# Altium footprint library Connectivity_Plugs.PcbLib: 37 footprints (part 1 of 3)
Each footprint in its own frame and in the unit in brackets; x right, y up, seen from the top. Pads: shape width x height; smd on the part's side, far side on the other; paste and mask are expansions set on the pad; w line width, h text height; cw(c..) or ccw(c..) is an arc to the next point about the centre after c.
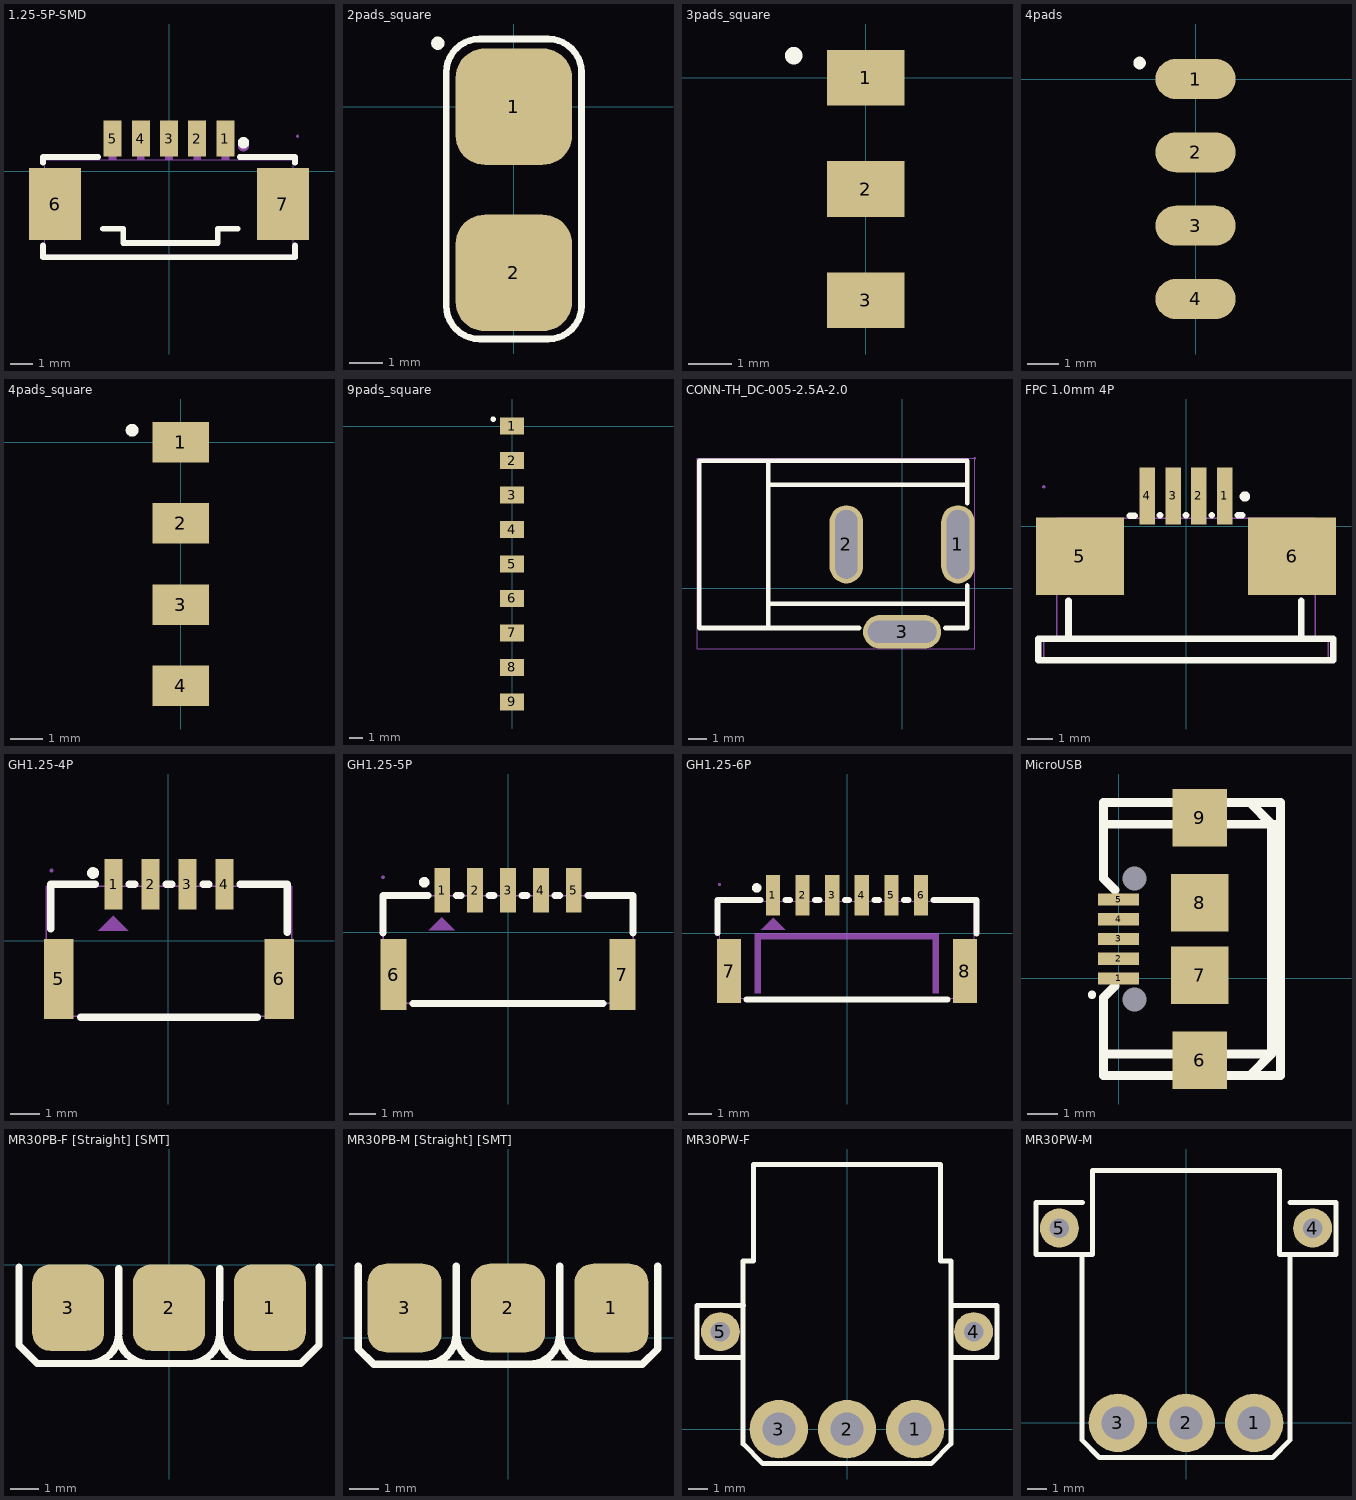
[diagram p0: the footprints below, top view; thin cyan lines are the x and y axes]

## 1.25-5P-SMD [mm] "CONN-SMD_5P-P1.25_532610571-2"
pads (7):
  rect 0.8x1.6 smd paste+0 mask+0.051: 1(2.5,1.45) 2(1.25,1.45) 3(0,1.45) 4(-1.25,1.45) 5(-2.5,1.45)
  rect 2.3x3.2 smd paste+0 mask+0.051: 6(-5.05,-1.45) 7(5.05,-1.45)
Top Overlay:
  circle w0.254: c3.302,1.27 r0.127
  lines w0.254: -5.588,-3.281 -5.588,-3.81 5.588,-3.81 5.588,-3.281 ; -5.588,0.381 -5.588,0.635 -3.131,0.635 ; -2.921,-2.54 -2.032,-2.54 -2.032,-3.175 2.159,-3.175 2.159,-2.54 2.921,-2.54 3.048,-2.54 ; 3.131,0.635 5.588,0.635 5.588,0.381
Mechanical 6:
  circle w0.254: c3.302,1.143 r0.127
Mechanical 15:
  region: 5.76,1.562 5.76,1.587 5.725,1.622 5.675,1.622 5.64,1.587 5.64,1.562 5.64,1.537 5.675,1.502 5.725,1.502 5.76,1.537
  region: 5.7,-0.485 5.7,-2.685 4.22,-2.685 4.22,-0.485
  region: 2.66,1.137 2.66,0.5 2.34,0.5 2.34,1.137
  region: 2.66,1.562 2.66,1.112 2.34,1.112 2.34,1.562
  region: -2.34,1.562 -2.34,1.112 -2.66,1.112 -2.66,1.562
  region: -1.09,1.562 -1.09,1.112 -1.41,1.112 -1.41,1.562
  region: 0.16,1.562 0.16,1.112 -0.16,1.112 -0.16,1.562
  region: 1.41,1.562 1.41,1.112 1.09,1.112 1.09,1.562
  region: -2.34,1.137 -2.34,0.5 -2.66,0.5 -2.66,1.137
  region: -1.09,1.137 -1.09,0.5 -1.41,0.5 -1.41,1.137
  region: 0.16,1.137 0.16,0.5 -0.16,0.5 -0.16,1.137
  region: 1.41,1.137 1.41,0.5 1.09,0.5 1.09,1.137
  region: -4.22,-0.485 -4.22,-2.685 -5.7,-2.685 -5.7,-0.485
  lines w0.051: -5.5,-3.685 -5.5,0.515 5.5,0.515 5.5,-3.685 -5.5,-3.685
3D body "3D_PCB1_2023-04-28.step": height 3.41, standoff 0, extent -5.7,-3.93 5.7,1.27

## 2pads_square [mm]
pads (2):
  rrect50% 3.5x3.5 smd: 1(0,0) 2(0,-5)
Top Overlay:
  circle w0.2: c-2.286,1.905 r0.1
  lines w0.2: -2.032,-5.985 ccw(c-1.032,-5.985) -1.032,-6.985 1.032,-6.985 ccw(c1.032,-5.985) 2.032,-5.985 2.032,1.032 ccw(c1.032,1.032) 1.032,2.032 -1.032,2.032 ccw(c-1.032,1.032) -2.032,1.032 -2.032,-5.985

## 3pads_square [mil]
pads (3):
  rect 70x50 smd: 1(0,0) 2(0,-100) 3(0,-200)
Top Overlay:
  circle w7.87: c-65,20 r3.94

## 4pads [mm]
pads (4):
  rrect100% 2.54x1.27 smd: 1(0,0) 2(0,-2.328) 3(0,-4.657) 4(0,-6.985)
Top Overlay:
  circle w0.2: c-1.778,0.508 r0.1

## 4pads_square [mil]
pads (4):
  rect 70x50 smd: 1(0,0) 2(0,-100) 3(0,-200) 4(0,-300)
Top Overlay:
  circle w7.87: c-60,15 r3.94

## 9pads_square [mil]
pads (9):
  rect 70x50 smd: 1(0,0) 2(0,-100) 3(0,-200) 4(0,-300) 5(0,-400) 6(0,-500) 7(0,-600) 8(0,-700) 9(0,-800)
Top Overlay:
  circle w7.87: c-55,20 r3.94

## CONN-TH_DC-005-2.5A-2.0 [mm]
pads (3):
  oval 1.8x4.2 hole 1.2 slot 3.7 at 90 deg: 1(3,2.35) 2(-3,2.35)
  oval 4.2x1.8 hole 1.2 slot 3.7 at 0 deg: 3(0,-2.35)
Top Overlay:
  lines w0.254: -7.2,-2.15 -7.2,6.85 ; -7.12,-0.85 3.5,-0.85 ; -7.12,5.55 3.5,5.55 ; -2.313,-2.15 -10.9,-2.15 -10.9,6.85 3.5,6.85 3.5,4.564 ; 2.313,-2.15 3.5,-2.15 3.5,0.136
Mechanical 15:
  region: 3.96,6.977 3.96,7.002 3.925,7.037 3.875,7.037 3.84,7.002 3.84,6.977 3.84,6.952 3.875,6.917 3.925,6.917 3.96,6.952
  region: -1.25,-1.87 1.25,-1.87 1.25,-2.83 -1.25,-2.83
  region: -2.52,3.6 -2.52,1.1 -3.48,1.1 -3.48,3.6
  region: 2.52,1.1 2.52,3.6 3.48,3.6 3.48,1.1
  lines w0.051: -11.027,-3.25 -11.027,6.977 3.9,6.977 3.9,-3.25 -11.027,-3.25
3D body "3D_PCB1_2023-08-28.step": height 11, standoff -3.99, extent -10.668,-2.491 3.381,6.809

## FPC 1.0mm 4P [mm] "SMD,1mm P数:4 抽屉式 下接"
pads (6):
  rect 0.6x2.2 smd mask+0.051: 1(1.499,1.163) 2(0.499,1.163) 3(-0.5,1.163) 4(-1.5,1.163)
  rect 3.4x3 smd mask+0.051: 5(-4.1,-1.162) 6(4.1,-1.163)
Top Overlay:
  circle w0.2: c2.276,1.143 r0.1
  lines w0.254: -5.718,-5.192 4.48,-5.192 ; -5.718,-5.19 -5.718,-4.36 ; -5.718,-4.352 5.69,-4.352 ; -4.543,-4.352 -4.543,-2.893 ; -2.175,0.4 -1.988,0.4 ; -1.004,0.415 -0.995,0.415 ; -0.004,0.415 0.004,0.415 ; 0.995,0.415 1.004,0.415 ; 1.995,0.415 2.182,0.415 ; 4.456,-4.352 4.456,-2.894 ; 4.49,-5.192 5.69,-5.192 5.69,-4.362
Mechanical 6:
  circle w0.2: c1.525,1.975 r0.1
Mechanical 15:
  region: 5,-2.413 3.2,-2.413 3.2,0.087 5,0.087
  region: -3.2,-2.412 -5,-2.412 -5,0.088 -3.2,0.088
  region: -1.625,1.512 -1.375,1.512 -1.375,0.112 -1.625,0.112
  region: -0.625,1.512 -0.375,1.512 -0.375,0.112 -0.625,0.112
  region: 1.374,1.512 1.624,1.512 1.624,0.112 1.374,0.112
  region: 0.374,1.512 0.625,1.512 0.625,0.112 0.374,0.112
  region: -5.44,1.512 -5.44,1.537 -5.475,1.572 -5.525,1.572 -5.56,1.537 -5.56,1.512 -5.56,1.488 -5.525,1.452 -5.475,1.452 -5.44,1.488
  lines w0.051: -5.5,-5.2 5.5,-5.2 5.5,-4.35 5,-4.35 5,0.3 -5,0.3 -5,-4.325 -5.5,-4.325 -5.5,-5.2
3D body: height 2.5, standoff 0, extent -5.588,-5.334 5.588,0.381

## GH1.25-4P [mm]
pads (6):
  rect 0.6x1.7 smd mask+0.05: 1(-1.845,1.905) 2(-0.595,1.905) 3(0.655,1.905) 4(1.905,1.905)
  rect 1x2.7 smd mask+0.05: 5(-3.695,-1.296) 6(3.755,-1.296)
Top Overlay:
  circle w0.2: c-2.54,2.286 r0.1
  lines w0.254: -3.97,0.405 -3.97,1.905 -2.47,1.905 ; -2.964,-2.595 3.024,-2.595 ; -1.314,1.905 -1.126,1.905 ; -0.064,1.905 0.124,1.905 ; 1.186,1.905 1.374,1.905 ; 2.436,1.905 2.53,1.905 4.03,1.905 4.03,0.285
Mechanical 6:
  region: -2.357,0.336 -1.357,0.336 -1.857,0.836
Mechanical 15:
  region: -3.595,-2.546 -3.795,-2.546 -3.795,-0.046 -3.595,-0.046
  region: 3.855,-2.546 3.655,-2.546 3.655,-0.046 3.855,-0.046
  region: -1.745,1.248 -1.945,1.248 -1.945,2.248 -1.745,2.248
  region: -0.495,1.248 -0.695,1.248 -0.695,2.248 -0.495,2.248
  region: 0.755,1.248 0.555,1.248 0.555,2.248 0.755,2.248
  region: 2.005,1.248 1.805,1.248 1.805,2.248 2.005,2.248
  region: -4.008,2.375 -4.008,2.35 -3.973,2.315 -3.923,2.315 -3.888,2.35 -3.888,2.375 -3.888,2.399 -3.923,2.435 -3.973,2.435 -4.008,2.399
  lines w0.051: -4.12,-2.559 -4.12,1.841 4.18,1.841 4.18,-2.559 -4.12,-2.559
3D body "3D_PCB1_2023-04-15.step": height 4.26, standoff 0, extent -4.125,-2.667 4.125,2.192

## GH1.25-5P [mm]
pads (7):
  rect 0.6x1.7 smd mask+0.05: 1(-2.5,1.6) 2(-1.25,1.6) 3(0,1.6) 4(1.25,1.6) 5(2.5,1.6)
  rect 1x2.7 smd mask+0.05: 6(-4.35,-1.6) 7(4.35,-1.6)
Top Overlay:
  circle w0.2: c-3.185,1.905 r0.1
  lines w0.254: -4.75,-0.019 -4.75,1.4 -3.031,1.4 ; -3.619,-2.7 3.619,-2.7 ; -1.969,1.4 -1.781,1.4 ; -0.719,1.4 -0.531,1.4 ; 0.531,1.4 0.719,1.4 ; 1.781,1.4 1.969,1.4 ; 3.031,1.4 4.75,1.4 4.75,-0.019
Mechanical 6:
  region: -3.017,0.083 -2.017,0.083 -2.517,0.583
Mechanical 15:
  region: -4.69,2.1 -4.69,2.125 -4.725,2.16 -4.775,2.16 -4.81,2.125 -4.81,2.1 -4.81,2.075 -4.775,2.04 -4.725,2.04 -4.69,2.075
  region: -2.6,2.1 -2.4,2.1 -2.4,1.1 -2.6,1.1
  region: -1.35,2.1 -1.15,2.1 -1.15,1.1 -1.35,1.1
  region: -0.1,2.1 0.1,2.1 0.1,1.1 -0.1,1.1
  region: 1.15,2.1 1.35,2.1 1.35,1.1 1.15,1.1
  region: 2.4,2.1 2.6,2.1 2.6,1.1 2.4,1.1
  region: 4.25,-0.9 4.45,-0.9 4.45,-2.6 4.25,-2.6
  region: -4.45,-0.9 -4.25,-0.9 -4.25,-2.6 -4.45,-2.6
  lines w0.051: -4.75,-2.7 4.75,-2.7 4.75,1.4 -4.75,1.4 -4.75,-2.7
3D body "3D_PCB1_2023-04-15 (2).step": height 4.26, standoff 0, extent -4.75,-2.921 4.75,1.938

## GH1.25-6P [mm]
pads (8):
  rect 0.6x1.7 smd mask+0.051: 1(-3.125,1.6) 2(-1.875,1.6) 3(-0.625,1.6) 4(0.625,1.6) 5(1.875,1.6) 6(3.125,1.6)
  rect 1x2.7 smd mask+0.051: 7(-4.975,-1.6) 8(4.975,-1.6)
Top Overlay:
  circle w0.2: c-3.81,1.905 r0.1
  lines w0.254: -5.461,0 -5.461,1.397 -3.656,1.397 ; -4.244,-2.794 4.244,-2.794 ; -2.594,1.397 -2.406,1.397 ; -1.344,1.397 -1.156,1.397 ; -0.094,1.397 0.094,1.397 ; 1.156,1.397 1.344,1.397 ; 2.406,1.397 2.594,1.397 ; 3.656,1.397 5.461,1.397 5.461,-0.019
Mechanical 6:
  region: -3.886,-2.54 -3.886,0 3.861,0 3.861,-2.54 3.607,-2.54 3.607,-0.254 -3.632,-0.254 -3.632,-2.54
  region: -3.606,0.136 -2.606,0.136 -3.106,0.636
Mechanical 15:
  region: -5.315,2.05 -5.315,2.075 -5.35,2.11 -5.399,2.11 -5.435,2.075 -5.435,2.05 -5.435,2.025 -5.399,1.99 -5.35,1.99 -5.315,2.025
  region: -3.225,2.05 -3.025,2.05 -3.025,1.05 -3.225,1.05
  region: -1.975,2.05 -1.775,2.05 -1.775,1.05 -1.975,1.05
  region: -0.725,2.05 -0.525,2.05 -0.525,1.05 -0.725,1.05
  region: 0.525,2.05 0.725,2.05 0.725,1.05 0.525,1.05
  region: 1.775,2.05 1.975,2.05 1.975,1.05 1.775,1.05
  region: 3.025,2.05 3.225,2.05 3.225,1.05 3.025,1.05
  region: -5.075,-0.85 -4.875,-0.85 -4.875,-2.35 -5.075,-2.35
  region: 4.875,-0.85 5.075,-0.85 5.075,-2.35 4.875,-2.35
  lines w0.051: -5.375,-2.75 -5.375,1.35 5.375,1.35 5.375,-2.75 -5.375,-2.75
3D body "3D_PCB1_2023-04-15 (1).step": height 4.26, standoff 0, extent -5.375,-2.921 5.375,1.938

## MicroUSB [mm] "Connector; USB1.1, Type B, SM; 4 Position; Right Angle"
height 11
pads (11):
  rect 1.35x0.4 smd mask+0.001: 1(0,0) 2(0,0.65) 3(0,1.3) 4(0,1.95) 5(0,2.6)
  rect 1.8x1.9 smd: 6(2.675,-2.7) 9(2.675,5.3)
  rect 1.9x1.9 smd: 7(2.675,0.1) 8(2.675,2.5)
  round 0 hole 0.8 unplated mask+0.001: MH1(0.525,3.3) MH2(0.525,-0.7)
Top Overlay:
  circle w0.25: c-0.881,-0.542 r0.011
  lines w0.3: -0.452,-2.495 5.04,-2.495 ; -0.452,5.094 5.334,5.08 5.04,5.094 ; -0.127,-0.254 -0.5,-0.627 -0.5,-3.209 4.326,-3.209 5.04,-2.495 ; -0.127,2.921 -0.5,3.294 -0.5,5.808 4.326,5.808 5.04,5.094 ; 3.818,5.808 5.334,5.808 5.334,-3.209 3.945,-3.209 ; 5.04,-2.495 5.04,5.094
3D body "AP2014.STEP": height 2.79, standoff -0.28, extent -0.11,-3.091 5.515,5.709

## MR30PB-F [Straight] [SMT] [mm] "驱动器端"
height 8.4
pads (3):
  rrect50% 2.5x3 smd: 1(3.5,-1.489) 2(0,-1.489) 3(-3.5,-1.489)
Top Overlay:
  lines w0.254: -5.207,-0.076 -5.207,-2.794 -4.572,-3.429 4.572,-3.429 5.207,-2.794 5.207,-0.076 ; -2.787,-3.429 ccw(c-2.787,-2.394) -1.753,-2.394 ccw(c-0.718,-2.394) -0.718,-3.429 ; -1.749,-2.394 -1.746,-0.127 ; 0.718,-3.429 ccw(c0.718,-2.394) 1.753,-2.394 ccw(c2.787,-2.394) 2.787,-3.429 ; 1.756,-2.394 1.76,-0.127
3D body "asm0001_asm.stp": height 2.74, standoff -2.56, extent -5.944,-1.778 5.944,9.622

## MR30PB-M [Straight] [SMT] [mm] "驱动器端"
height 8.4
pads (3):
  rrect50% 2.5x3 smd: 1(3.5,1) 2(0,1) 3(-3.5,1)
Top Overlay:
  lines w0.254: -5.08,2.413 -5.08,-0.381 -4.553,-0.908 4.553,-0.908 5.08,-0.381 5.08,2.413 ; -2.787,-0.908 ccw(c-2.787,0.127) -1.753,0.127 ccw(c-0.718,0.127) -0.718,-0.908 ; -1.752,0.127 -1.748,2.413 ; 0.718,-0.908 ccw(c0.718,0.127) 1.753,0.127 ccw(c2.787,0.127) 2.787,-0.908 ; 1.754,0.127 1.757,2.413
3D body "22.stp": height 1.94, standoff -2.97, extent -5.95,0 5.95,13.4

## MR30PW-F [mm] "驱动器端"
height 8.4
pads (5):
  round 3 hole 1.7: 1(3.5,0) 2(0,0) 3(-3.5,0)
  round 2 hole 1: 4(6.5,5) 5(-6.5,5)
Top Overlay:
  lines w0.254: -7.7,3.683 -7.7,6.35 -5.32,6.35 ; -7.667,3.683 -5.367,3.683 ; -4.812,8.636 -5.334,8.636 -5.334,-0.762 -4.318,-1.778 4.318,-1.778 5.334,-0.762 5.334,8.636 4.8,8.636 4.8,13.589 -4.8,13.589 -4.8,8.636 ; 5.334,3.683 7.7,3.683 7.7,6.35 ; 5.334,6.35 7.634,6.35
3D body "Amass MR30PW-FB.STEP": height 5.1, standoff -1.85, extent -7.7,-0.83 7.7,13.62

## MR30PW-M [mm] "电机端"
height 8.4
pads (5):
  round 3 hole 1.7: 1(3.5,0) 2(0,0) 3(-3.5,0)
  round 2 hole 1: 4(6.5,10) 5(-6.5,10)
Top Overlay:
  lines w0.254: -7.7,8.636 -7.7,11.303 -5.32,11.303 ; -7.667,8.636 -5.367,8.636 ; -4.812,8.636 -5.334,8.636 -5.334,-0.889 -4.445,-1.778 4.445,-1.778 5.334,-0.889 5.334,8.636 ; -4.8,8.636 -4.8,12.954 4.8,12.954 4.8,8.636 5.334,8.636 ; 5.334,11.303 7.634,11.303 ; 7.7,11.303 7.7,8.636 5.334,8.636
3D body "MR30PW-M v2.step": height 5.05, standoff -1.95, extent -7.653,-0.947 7.747,13